# EAGLE library part BMP085_BREAKOUT (library Breakouts)
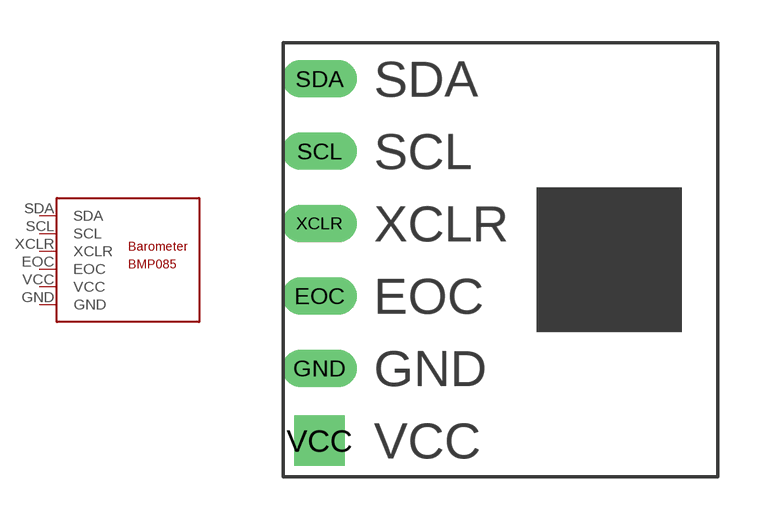
[diagram p1: symbol with the pads of BMP085_BREAKOUT; footprint BMP085_BREAKOUT]

Designator prefix -

## BMP085_BREAKOUT  [BMP085_BREAKOUT]
EOC  EOC
GND  GND
SCL  SCL
SDA  SDA
VCC  VCC
XCLR  XCLR

## Footprint BMP085_BREAKOUT (pad centres in mm)
drill 0.8 long: EOC 1.27,6.35; GND 1.27,3.81; SCL 1.27,11.43; SDA 1.27,13.97; XCLR 1.27,8.89
drill 0.8 pad 1.778 square: VCC 1.27,1.27